# Altium schematic symbol library Inductor Power.SchLib: 36 symbols
Pins are listed as number, name and electrical type; pins without a type are passive.

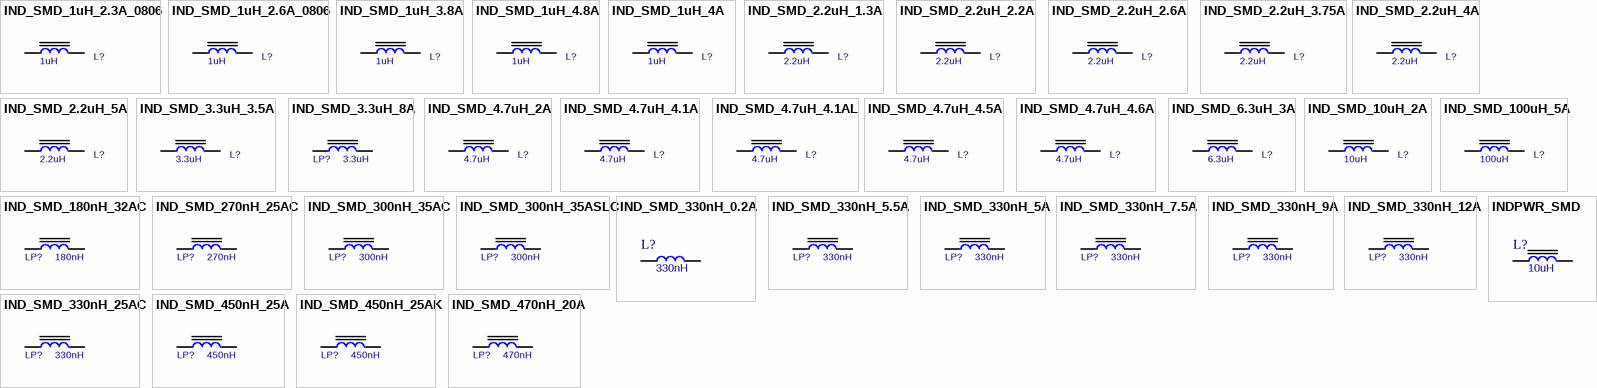
[diagram p0: symbols IND_SMD_1uH_2.3A_0806 to INDPWR_SMD]

## IND_SMD_1uH_2.3A_0806
designator L?, comment 1uH
INDUCTOR, 1uH, 2.3A, 70mOhm, 0806; PARAM: 2.3A, 2.7A (Isat); MANF_P#: MAKK2016H1R0M; MANF: Taiyo Yuden; PARAM2: 70mOhm, -40~125oC; PRICE: 0.27$; ASSEMBLY: ASSEMBLY; VALUE: 1uH
footprint L0806 (INDUCTOR, FERRITE BEAD, 0805, 2.0X1.6mm)
pins: 1, 2

## IND_SMD_1uH_2.6A_0806
designator L?, comment 1uH
INDUCTOR, 1uH, 2.6A, 65mOhm, 0806; PARAM: 2.6A, 2.9A (Isat); MANF_P#: LPWI201608S1R0T; MANF: LittleFuse; PARAM2: 65mOhm, -40~125oC; PRICE: 0.4$; ASSEMBLY: ASSEMBLY; VALUE: 1uH
footprint L0806 (INDUCTOR, FERRITE BEAD, 0805, 2.0X1.6mm)
pins: 1, 2

## IND_SMD_1uH_3.8A
designator L?, comment 1uH
INDUCTOR, 1uH, 3.8A, 32mOhm, 1210; PARAM: 3.8A, 4.8A (Isat); MANF_P#: DFE252012PD-2R2M; MANF: Murata; PARAM2: 32mOhm, -40~125oC; PRICE: 0.8$; ASSEMBLY: ASSEMBLY; VALUE: 1uH
footprint L1210 (INDUCTOR, FERRITE BEAD, 1210, 3.2X2.5mm)
pins: 1, 2

## IND_SMD_1uH_4.8A
designator L?, comment 1uH
INDUCTOR, 1uH, 4.8A, 27mOhm; PARAM: 4.8A, 6.2A (Isat); MANF_P#: IHLP1616BZER1R0M5A; MANF: Vishay; PARAM2: 27mOhm, -55~125oC; PRICE: 1.7$; ASSEMBLY: ASSEMBLY; VALUE: 1uH
footprint L_4 (INDUCTOR, 3.8x3.8mm, 3.7x3.5mm, WURTH 744031470, VLCF4020)
pins: 1, 2

## IND_SMD_1uH_4A
designator L?, comment 1uH
INDUCTOR, 1uH, 4A, 32mOhm; PARAM: 4A, 5A (Isat); MANF_P#: 74438336010; MANF: WE; PARAM2: 32mOhm, -40~125oC; PRICE: 1.5$; ASSEMBLY: ASSEMBLY; VALUE: 1uH
footprint L_3 (INDUCTOR, 3.0X3.2mm, VLS3012)
pins: 1, 2

## IND_SMD_2.2uH_1.3A
designator L?, comment 2.2uH
INDUCTOR, 2.2uH 1.3A, 80mOhm, 1008; MANF_P#: LQM2HPN2R2MG0L; MANF: Murata; PARAM2: 80mOhm, -55~125oC; PARAM: 1.3A; PRICE: 0.3$; ASSEMBLY: ASSEMBLY; VALUE: 2.2uH
footprint L1008 (INDUCTOR, 2520 1008, 2.5X2.0mm)
pins: 1, 2

## IND_SMD_2.2uH_2.2A
designator L?, comment 2.2uH
INDUCTOR, 2.2uH, 2.2A, 84mOhm, 1008; PARAM: 2.2A, 2.8A (Isat); MANF_P#: DFE252012PD-2R2M; MANF: Murata; PARAM2: 84mOhm, -40~125oC; PRICE: 0.75$; ASSEMBLY: ASSEMBLY; VALUE: 2.2uH
footprint L1008 (INDUCTOR, 2520 1008, 2.5X2.0mm)
pins: 1, 2

## IND_SMD_2.2uH_2.6A
designator L?, comment 2.2uH
INDUCTOR, 2.2uH, 2.6A, 84mOhm, 1210; PARAM: 2.6A, 3.4A (Isat); MANF_P#: DFE252012PD-2R2M; MANF: Murata; PARAM2: 66mOhm, -40~125oC; PRICE: 0.9$; ASSEMBLY: ASSEMBLY; VALUE: 2.2uH
footprint L1210 (INDUCTOR, FERRITE BEAD, 1210, 3.2X2.5mm)
pins: 1, 2

## IND_SMD_2.2uH_3.75A
designator L?, comment 2.2uH
INDUCTOR, 2.2uH 3.75A, 20mOhm; PARAM: 3.75A Irms, 5.1A Isat, -40~125oC; MANF_P#: TYS60282R2N-10; MANF: LARID; PRICE: 0.34$; PARAM2: 20mOhm; ASSEMBLY: ASSEMBLY; VALUE: 2.2uH
footprint L_6 (INDUCTOR, 6.0X6.0mm)
pins: 1, 2

## IND_SMD_2.2uH_4A
designator L?, comment 2.2uH
INDUCTOR, 2.2uH 4A, 52mOhm, 1008; PARAM: 4A Irms, 6A Isat; DESC: INDUCTOR, 2.2uH 4A Irms, 52mOhm, 1008; MANF_P#: LQM2HPN2R2MG0L; MANF: BOURNS; PRICE: 1.0$; PARAM2: 52mOhm; ASSEMBLY: ASSEMBLY; VALUE: 2.2uH
footprint L_5 (INDUCTOR, 5.0X5.0mm)
pins: 1, 2

## IND_SMD_2.2uH_5A
designator L?, comment 2.2uH
INDUCTOR, 2.2uH 4.9A, 35mOhm, 5030; PARAM: 4.9A Irms, 10A Isat; MANF_P#: 74437336022; MANF: Wurth Electronics; PARAM2: 52mOhm; PRICE: 2.5$; DESC: INDUCTOR, 2.2uH 4.9A, 35mOhm, 5030; ASSEMBLY: ASSEMBLY; VALUE: 2.2uH
footprint L_5 (INDUCTOR, 5.0X5.0mm)
pins: 1, 2

## IND_SMD_3.3uH_3.5A
designator L?, comment 3.3uH
INDUCTOR, 3.3uH 3.5A, 20mOhm; PARAM: 3.5A Irms, 4.1A Isat, -40~125oC; MANF_P#: TYS60283R3N-10; MANF: LARID; PRICE: 0.34$; PARAM2: 20mOhm; ASSEMBLY: ASSEMBLY; VALUE: 3.3uH
footprint L_6 (INDUCTOR, 6.0X6.0mm)
pins: 1, 2

## IND_SMD_3.3uH_8A
designator LP?, comment 3.3uH
INDUCTOR, 3.3uH, 8A (Irms), 10mOhm; PARAM: 8A (Irms), 12A Isat; MANF: Bourns; MANF_P#: SRP7050TA-3R3M; PRICE: 1.3$; DESC: INDUCTOR, 3.3uH, 8A (Irms), 10mOhm; PARAM2: 10mOhm; ASSEMBLY: ASSEMBLY; VALUE: 3.3uH
footprint L_7 (INDUCTOR, 7.2X6.9mm, 7.1X6.5mm, SPM6530)
pins: 1, 2

## IND_SMD_4.7uH_2A
designator L?, comment 4.7uH
INDUCTOR, 4.7uH 2A, 80mOhm, 4818; PARAM: 2A Irms, 1.5A Isat; MANF_P#: SRR4818A-4R7Y; MANF: Bourns; PARAM2: 38mOhm; PRICE: 0.6$; DESC: INDUCTOR, 4.7uH 2A, 80mOhm, 4818; ASSEMBLY: ASSEMBLY; VALUE: 4.7uH
footprint L_5 (INDUCTOR, 5.0X5.0mm)
pins: 1, 2

## IND_SMD_4.7uH_4.1A
designator L?, comment 4.7uH
INDUCTOR, 4.7uH 4.1A, 24mOhm; PARAM: 4.1A Irms, 4.7A Isat, -40~105oC; MANF_P#: SRN8040-4R7Y; MANF: Bourns; PARAM2: 24mOhm, 30%; PRICE: 0.6$; ASSEMBLY: ASSEMBLY; VALUE: 4.7uH
footprint L_8 (INDUCTOR, 7.5X7.5mm, 8x8, DR74)
pins: 1, 2

## IND_SMD_4.7uH_4.1AL
designator L?, comment 4.7uH
INDUCTOR, 4.7uH 4.1A, 19mOhm; PARAM: 4.1A Irms, 4.7A Isat, -40~125oC; MANF_P#: TYS80404R7N-10; MANF: Larid; PARAM2: 19mOhm, 30%; PRICE: 0.75$; ASSEMBLY: ASSEMBLY; VALUE: 4.7uH
footprint L_8 (INDUCTOR, 7.5X7.5mm, 8x8, DR74)
pins: 1, 2

## IND_SMD_4.7uH_4.5A
designator L?, comment 4.7uH
INDUCTOR, 4.7uH 4.5A, 26mOhm; PARAM: 4.5A Irms, 6.8A Isat, -55~125oC; MANF_P#: SRN6045TA-4R7M; MANF: Bourns; PARAM2: 26mOhm, 20%; PRICE: 0.4$; ASSEMBLY: ASSEMBLY; VALUE: 4.7uH
footprint L_6 (INDUCTOR, 6.0X6.0mm)
pins: 1, 2

## IND_SMD_4.7uH_4.6A
designator L?, comment 4.7uH
INDUCTOR, 4.7uH 4.6A, 17mOhm; PARAM: 4.6A Irms, 3.6A Isat, -55~125oC; MANF_P#: SRU8043-4R7Y; MANF: Bourns; PARAM2: 26mOhm, 30%; PRICE: 0.75$; ASSEMBLY: ASSEMBLY; VALUE: 4.7uH
footprint L_8 (INDUCTOR, 7.5X7.5mm, 8x8, DR74)
pins: 1, 2

## IND_SMD_6.3uH_3A
designator L?, comment 6.3uH
INDUCTOR, 6.3uH 3A, 30mOhm; PARAM: 3A Irms, 4.4A Isat, -40~125oC; MANF_P#: TYS60456R3M-10; MANF: LARID; PRICE: 0.34$; PARAM2: 30mOhm; ASSEMBLY: ASSEMBLY; VALUE: 6.3uH
footprint L_6 (INDUCTOR, 6.0X6.0mm)
pins: 1, 2

## IND_SMD_10uH_2A
designator L?, comment 10uH
INDUCTOR, 10uH 2A, 38mOhm, 2626; PARAM: 2A Irms, 2.05A Isat; MANF_P#: SRR6038-100Y; MANF: Bourns; PRICE: 2.5$; DESC: INDUCTOR, 10uH 2A, 38mOhm, 2626; PARAM2: 38mOhm; ASSEMBLY: ASSEMBLY; VALUE: 10uH
footprint L_7 (INDUCTOR, 7.2X6.9mm, 7.1X6.5mm, SPM6530)
pins: 1, 2

## IND_SMD_100uH_5A
designator L?, comment 100uH
INDUCTOR, 100uH, 5A; PARAM: 5A; PRICE: 3000t; DESC: -; MANF_P#: -; MANF: -; ASSEMBLY: ASSEMBLY; VALUE: 100uH
footprint LTOR_25X10 (INDUCTOR, TORIOD, 25.0X10.0mm)
footprint LTOR_25X10B (INDUCTOR, TORIOD, 25.0X10.0mm BENDED)
pins: 1, 2

## IND_SMD_180nH_32AC
designator LP?, comment 180nH
INDUCTOR, 180nH, 32A (Irms), 1.7mOhm; PARAM: 24~32A (Irms), 39A Isat, -40~125oC; MANF: Coilcraft; PARAM2: 1.7mOhm, 3mm Height; MANF_P#: XAL6030-181MEC; PRICE: 2.6$; ASSEMBLY: ASSEMBLY; VALUE: 180nH
footprint L_XAL6030 (Inductor, XAL6030, 6.36x6.56x3.1mm)
pins: 1, 2

## IND_SMD_270nH_25AC
designator LP?, comment 270nH
INDUCTOR, 270nH, 25A (Irms), 3.8mOhm; PARAM: 19~25A (Irms), 29A Isat, -40~165oC; MANF: Coilcraft; PARAM2: 3.8mOhm, 2mm Height; MANF_P#: XAL6020-271MEC; PRICE: 2.6$; ASSEMBLY: ASSEMBLY; VALUE: 270nH
footprint L_XAL6020 (Inductor, XAL6020, 6.36x6.56x2.1mm)
pins: 1, 2

## IND_SMD_300nH_35AC
designator LP?, comment 300nH
INDUCTOR, 300nH, 35A (Irms), 1.7mOhm; PARAM: 25~35A (Irms), 68A Isat, -40~165oC; MANF: Coilcraft; PARAM2: 1.7mOhm, 3mm Height; MANF_P#: XAL1030-301MEC; PRICE: 4$; ASSEMBLY: ASSEMBLY; VALUE: 300nH
footprint L_10 (INDUCTOR, 10.35X10.35mm, CDRH104R, MSS1038 (coilcraft))
pins: 1, 2

## IND_SMD_300nH_35ASLC
designator LP?, comment 300nH
INDUCTOR, 300nH, 35A (Irms), 0.22mOhm; PARAM: 25~35A (Irms), 34A Isat, -40~85oC; MANF: Coilcraft; PARAM2: 0.22mOhm, 7.2mm Height; MANF_P#: SLC1175-301MEB; PRICE: 1.9$; ASSEMBLY: ASSEMBLY; VALUE: 300nH
footprint L_10 (INDUCTOR, 10.35X10.35mm, CDRH104R, MSS1038 (coilcraft))
pins: 1, 2

## IND_SMD_330nH_0.2A
designator L?, comment 330nH
INDUCTOR, SMD; MANF: EPCOS / TDK; MANF_P#: B82498F3331J; PARAM: 220mA, 1.5Ohm, -55~105oC; PRICE: 0.8$; VALUE: 330nH
footprint L0805 (INDUCTOR, FERRITE BEAD, 0805, 2.0X1.3mm)
pins: 1, 2

## IND_SMD_330nH_5.5A
designator LP?, comment 330nH
INDUCTOR, 330nH, 5.5A (Irms), 20mOhm; PARAM: 5.5A (Irms), 6.4A Isat; MANF: Taiyo Yuden; PARAM2: 20mOhm, 1.2mm Height, -40~125oC; MANF_P#: MDMK3030TR33MM; PRICE: 0.8$; ASSEMBLY: ASSEMBLY; VALUE: 330nH
footprint L_3 (INDUCTOR, 3.0X3.2mm, VLS3012)
pins: 1, 2

## IND_SMD_330nH_5A
designator LP?, comment 330nH
INDUCTOR, 330nH, 5.1A (Irms), 19mOhm; PARAM: 5.1A (Irms), 7.6A Isat; MANF: Murata; PARAM2: 6mOhm, 1.2mm Height, -40~125oC; MANF_P#: DFE252012F-R33M; PRICE: 1.8$; ASSEMBLY: ASSEMBLY; VALUE: 330nH
footprint L1008 (INDUCTOR, 2520 1008, 2.5X2.0mm)
pins: 1, 2

## IND_SMD_330nH_7.5A
designator LP?, comment 330nH
INDUCTOR, 330nH, 4A (Irms), 6mOhm; PARAM: 4A (Irms), 7.5A Isat; MANF: Vishay; PARAM2: 6mOhm, 2mm Height; MANF_P#: IHLP2020BZERR33M11; PRICE: 2.4$; ASSEMBLY: ASSEMBLY; VALUE: 330nH
footprint L_5_H2 (Footprint not found)
pins: 1, 2

## IND_SMD_330nH_9A
designator LP?, comment 330nH
INDUCTOR, 330nH, 9.6A (Irms), 6mOhm; PARAM: 9.6A (Irms), 12.4A Isat; MANF: WE; PARAM2: 6mOhm, 2mm Height; MANF_P#: 784383560033, 744383560033; PRICE: 1.8$; ASSEMBLY: ASSEMBLY; VALUE: 330nH
footprint L_4_H2 (Footprint not found)
pins: 1, 2

## IND_SMD_330nH_12A
designator LP?, comment 330nH
INDUCTOR, 330nH, 12A (Irms), 6mOhm; PARAM: 12A (Irms), 21A Isat; MANF: Bourns; PARAM2: 6mOhm, 2mm Height; MANF_P#: SRP5020TA-R33M; PRICE: 1$; ASSEMBLY: ASSEMBLY; VALUE: 330nH
footprint L_5_H2 (Footprint not found)
pins: 1, 2

## IND_SMD_330nH_25AC
designator LP?, comment 330nH
INDUCTOR, 330nH, 25A (Irms), 2.5mOhm; PARAM: 20~25A (Irms), 30A Isat, -40~125oC; MANF: Coilcraft; PARAM2: 2.5mOhm, 3mm Height; MANF_P#: XAL6030-181MEC; PRICE: 2.6$; ASSEMBLY: ASSEMBLY; VALUE: 330nH
footprint L_XAL6030 (Inductor, XAL6030, 6.36x6.56x3.1mm)
pins: 1, 2

## IND_SMD_450nH_25A
designator LP?, comment 450nH
INDUCTOR, 450nH, 25A (Irms), 1.2mOhm; PARAM: 25A (Irms), 32A Isat, -55~155oC; MANF: Eaton; PARAM2: 1.2mOhm, 4mm Height; MANF_P#: HCM1A1104-R45-R; PRICE: 3.3$; ASSEMBLY: ASSEMBLY; VALUE: 450nH
footprint L_10 (INDUCTOR, 10.35X10.35mm, CDRH104R, MSS1038 (coilcraft))
pins: 1, 2

## IND_SMD_450nH_25AK
designator LP?, comment 450nH
INDUCTOR, 450nH, 25A (Irms), 1.2mOhm; PARAM: 25A (Irms), 32A Isat, -20~120oC; MANF: KEMET; PARAM2: 1.1mOhm, 4mm Height; MANF_P#: MPC1040LR45C; PRICE: 1.3$; ASSEMBLY: ASSEMBLY; VALUE: 450nH
footprint L_10 (INDUCTOR, 10.35X10.35mm, CDRH104R, MSS1038 (coilcraft))
pins: 1, 2

## IND_SMD_470nH_20A
designator LP?, comment 470nH
INDUCTOR, 470nH, 20A (Irms), 3.4mOhm; PARAM: 20A (Irms), 26A Isat, -40~130oC; MANF: Pulse; PARAM2: 3.4mOhm, 3.2mm Height; MANF_P#: PG0426.471NLT; PRICE: 3$; ASSEMBLY: ASSEMBLY; VALUE: 470nH
footprint L_7 (INDUCTOR, 7.2X6.9mm, 7.1X6.5mm, SPM6530)
pins: 1, 2

## INDPWR_SMD
designator L?, comment 10uH
INDUCTOR, POWER, SMD; VALUE: 10uH
footprint L_12 (INDUCTOR, 13.5x12.5mm, DR125, CDRH127, D128C 931AS)
footprint L_3 (INDUCTOR, 3.0X3.2mm, VLS3012)
footprint L_4 (INDUCTOR, 3.8x3.8mm, 3.7x3.5mm, WURTH 744031470)
footprint L_5 (INDUCTOR, 5.0X5.0mm)
footprint L_6 (INDUCTOR, 6.0X6.0mm)
footprint L_7 (INDUCTOR, 7.2X6.9mm, 7.1X6.5mm, SPM6530)
footprint L_8 (INDUCTOR, 7.5X7.5mm, 8x8, DR74)
footprint L_10 (INDUCTOR, 10.35X10.35mm, CDRH104R, MSS1038 (coilcraft))
footprint L_2 (INDUCTOR, 2.0X2.0mm)
footprint L1007 (INDUCTOR, 2518 [1007], 2.5X1.8mm)
footprint L1008 (INDUCTOR, 2520 1008, 2.5X2.0mm)
pins: 1, 2